# Altium schematic symbol library CAP ELECTROLYTIC 10u 35V.SchLib: 1 symbol
Pins are listed as number, name and electrical type; pins without a type are passive.

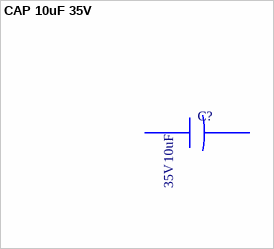
[diagram p0: symbol CAP 10uF 35V]

## CAP 10uF 35V
designator C?, comment Voltage: 35V  Capacitance: 10uF  (hidden comment: 865080540004)
footprint SMD WCAP-ASLI 35V 10uF
pins: 1 -, 2 +